# Altium schematic symbol library SCH - POWER - LINEAR VREG - TI TPS7A47RGW.SchLib: 1 symbol
Pins are listed as number, name and electrical type; pins without a type are passive.

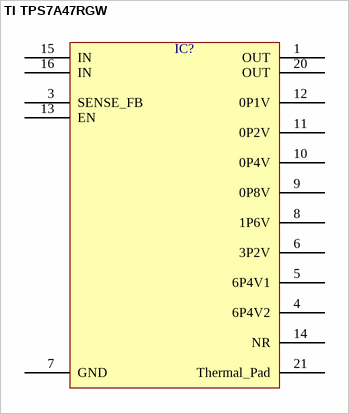
[diagram p0: symbol TI TPS7A47RGW]

## TI TPS7A47RGW
designator IC?  (value not drawn)
pins: 1 OUT, 3 SENSE_FB, 4 6P4V2, 5 6P4V1, 6 3P2V, 7 GND, 8 1P6V, 9 0P8V, 10 0P4V, 11 0P2V, 12 0P1V, 13 EN, 14 NR, 15 IN, 16 IN, 20 OUT, 21 Thermal_Pad